# Altium footprint library SparkFun-Connectors.PCBLIB: 386 footprints (part 21 of 25)
Each footprint in its own frame and in the unit in brackets; x right, y up, seen from the top. Pads: shape width x height; smd on the part's side, far side on the other; paste and mask are expansions set on the pad; w line width, h text height; cw(c..) or ccw(c..) is an arc to the next point about the centre after c.
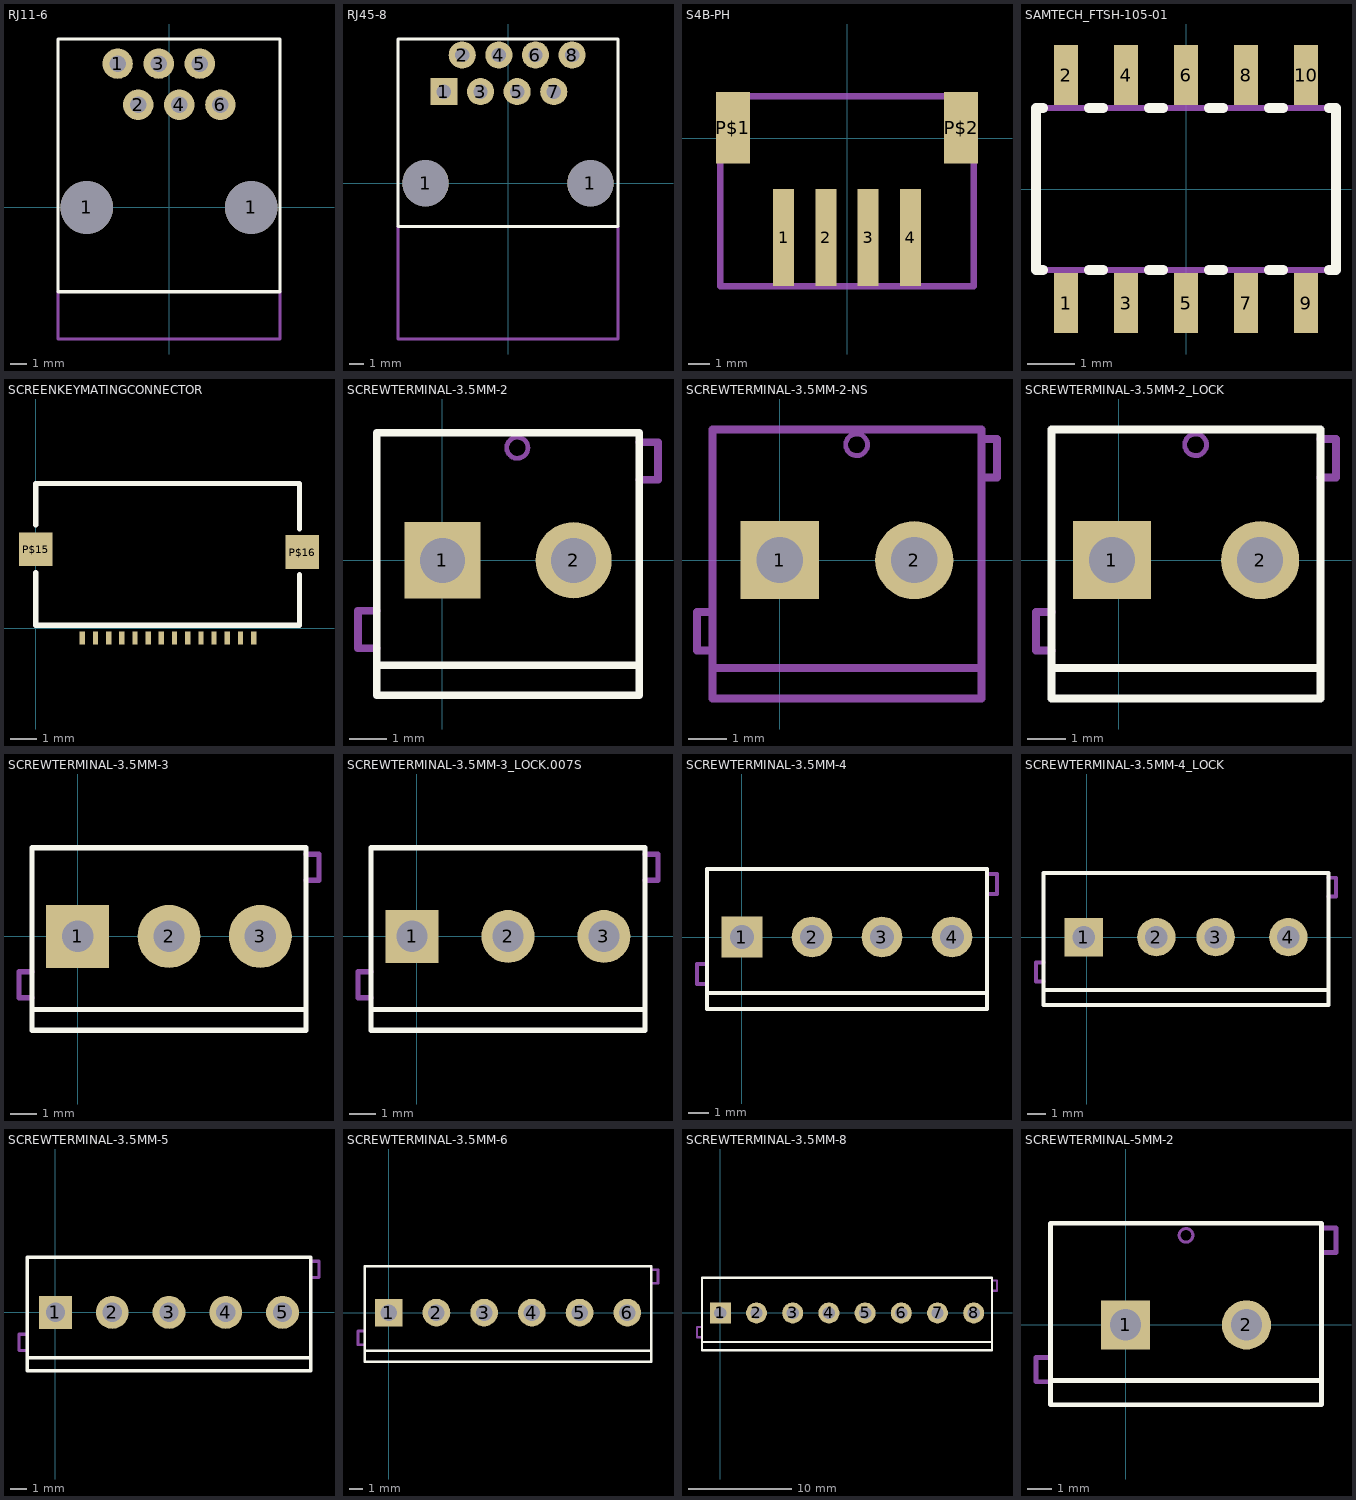
[diagram p20: the footprints below, top view; thin cyan lines are the x and y axes]

## RJ11-6 [mil]
pads (8):
  round 128 hole 128: 1(-200,0) 1(200,0)
  round 74 hole 40: 1(-125,350) 2(-75,250) 3(-25,350) 4(25,250) 5(75,350) 6(125,250)
Top Overlay:
  lines w8: -270,-205 -270,410 270,410 270,-205 -270,-205
Mechanical 16:
  lines w8: -270,-205 -270,-320 270,-320 270,-205

## RJ45-8 [mil]
pads (10):
  round 125.98 hole 125.98: 1(-225,0) 1(225,0)
  rect 74x74 hole 39.37: 1(-175,250)
  round 74 hole 39.37: 2(-125,350) 3(-75,250) 4(-25,350) 5(25,250) 6(75,350) 7(125,250) 8(175,350)
Top Overlay:
  lines w8: -300,-118.11 -300,393.7 300,393.7 300,-118.11 -300,-118.11
Mechanical 16:
  lines w8: -300,-118.11 -300,-425.2 300,-425.2 300,-118.11

## S4B-PH [mm]
pads (6):
  rect 1x4.6 smd: 1(-3,-4.7) 2(-1,-4.7) 3(1,-4.7) 4(3,-4.7)
  rect 1.6x3.4 smd: P$1(-5.4,0.5) P$2(5.4,0.5)
Mechanical 16:
  lines w0.305: -6,-7 -6,2 6,2 6,-7 -6,-7

## SAMTECH_FTSH-105-01 [mil]
pads (10):
  rect 20x50 smd: 1(-100,-95) 2(-100,95) 3(-50,-95) 4(-50,95) 5(0,-95) 6(0,95) 7(50,-95) 8(50,95) 9(100,-95) 10(100,95)
Top Overlay:
  lines w8: -119,-67.5 -125,-67.5 -125,67.5 -119,67.5 ; -81,-67.5 -69,-67.5 ; -81,67.5 -69,67.5 ; -31,-67.5 -19,-67.5 ; -31,67.5 -19,67.5 ; 19,-67.5 31,-67.5 ; 19,67.5 31,67.5 ; 69,-67.5 81,-67.5 ; 69,67.5 81,67.5 ; 119,-67.5 125,-67.5 125,67.5 119,67.5
Mechanical 16:
  rectangle: -8,67.5 8,115
  rectangle: 42,67.5 58,115
  rectangle: 92,67.5 108,115
  rectangle: -58,67.5 -42,115
  rectangle: -108,67.5 -92,115
  region: 8,-67.5 -8,-67.5 -8,-115 8,-115
  region: -42,-67.5 -58,-67.5 -58,-115 -42,-115
  region: -92,-67.5 -108,-67.5 -108,-115 -92,-115
  region: 58,-67.5 42,-67.5 42,-115 58,-115
  region: 108,-67.5 92,-67.5 92,-115 108,-115
  lines w5: -125,-67.5 125,-67.5 125,67.5 -125,67.5 -125,-67.5

## SCREENKEYMATINGCONNECTOR [mm]
pads (16):
  rect 0.2x0.5 smd: 1(1.76,-0.36) 2(2.26,-0.36) 3(2.76,-0.36) 4(3.26,-0.36) 5(3.76,-0.36) 6(4.26,-0.36) 7(4.76,-0.36) 8(5.26,-0.36) 9(5.76,-0.36) 10(6.26,-0.36) 11(6.76,-0.36) 12(7.26,-0.36) 13(7.76,-0.36) 14(8.26,-0.36)
  rect 1.28x1.28 smd: P$15(0,3) P$16(10.1,2.9)
Top Overlay:
  lines w0.203: 0,2.108 0,0.127 10,0.127 10,2.032 ; 0,3.937 0,5.486 ; 0,5.5 10,5.5 10,3.785

## SCREWTERMINAL-3.5MM-2 [mil]
pads (2):
  rect 80x80 hole 47.24: 1(0,0)
  round 80 hole 47.24: 2(137.8,0)
Top Overlay:
  lines w8: -68.9,-110.24 -68.9,-141.73 206.69,-141.73 206.69,-110.24 ; -68.9,-110.24 -68.9,133.86 206.69,133.86 206.69,-110.24 ; -68.9,-110.24 206.69,-110.24
Mechanical 16:
  circle w5: c78.74,118.11 r11.13
  lines w8: -68.9,-92.52 -88.58,-92.52 -88.58,-53.15 -68.9,-53.15 ; 206.69,84.65 226.38,84.65 226.38,124.02 206.69,124.02

## SCREWTERMINAL-3.5MM-2-NS [mil]
pads (2):
  rect 80x80 hole 47.24: 1(0,0)
  round 80 hole 47.24: 2(137.8,0)
Mechanical 16:
  circle w5: c78.74,118.11 r11.13
  lines w8: -68.9,-92.52 -84.65,-92.52 -84.65,-53.15 -68.9,-53.15 ; 206.69,84.65 222.44,84.65 222.44,124.02 206.69,124.02 ; -68.9,-110.24 -68.9,-141.73 206.69,-141.73 206.69,-110.24 ; -68.9,-110.24 -68.9,133.86 206.69,133.86 206.69,-110.24 ; -68.9,-110.24 206.69,-110.24

## SCREWTERMINAL-3.5MM-2_LOCK [mil]
pads (2):
  rect 80x80 hole 47.24: 1(-7,0)
  round 80 hole 47.24: 2(144.8,0)
Top Overlay:
  lines w8: -68.9,-110.24 -68.9,-141.73 206.69,-141.73 206.69,-110.24 ; -68.9,-110.24 -68.9,133.86 206.69,133.86 206.69,-110.24 ; -68.9,-110.24 206.69,-110.24
Mechanical 16:
  circle w5: c78.74,118.11 r11.13
  circle w1: c0,0 r17
  circle w1: c137.8,0 r17
  lines w8: -68.9,-92.52 -84.65,-92.52 -84.65,-53.15 -68.9,-53.15 ; 206.69,84.65 222.44,84.65 222.44,124.02 206.69,124.02

## SCREWTERMINAL-3.5MM-3 [mil]
pads (3):
  rect 95x95 hole 47.24: 1(0,0)
  round 95 hole 47.24: 2(137.8,0) 3(275.59,0)
Top Overlay:
  lines w8: -68.9,-110.24 -68.9,-141.73 344.49,-141.73 344.49,-110.24 ; -68.9,-110.24 -68.9,133.86 344.49,133.86 344.49,-110.24 ; -68.9,-110.24 344.49,-110.24
Mechanical 16:
  lines w8: -68.9,-92.52 -88.58,-92.52 -88.58,-53.15 -68.9,-53.15 ; 344.49,84.65 364.17,84.65 364.17,124.02 344.49,124.02

## SCREWTERMINAL-3.5MM-3_LOCK.007S [mil]
pads (3):
  rect 80x80 hole 47.24: 1(-7,0)
  round 80 hole 47.24: 2(137.8,0) 3(282.59,0)
Top Overlay:
  lines w8: -68.9,-110.24 -68.9,-141.73 344.49,-141.73 344.49,-110.24 ; -68.9,-110.24 -68.9,133.86 344.49,133.86 344.49,-110.24 ; -68.9,-110.24 344.49,-110.24
Mechanical 16:
  circle w0.04: c0,0 r16.73
  circle w0.04: c137.8,0 r16.73
  circle w0.04: c275.59,0 r16.73
  lines w8: -68.9,-92.52 -88.58,-92.52 -88.58,-53.15 -68.9,-53.15 ; 344.49,84.65 364.17,84.65 364.17,124.02 344.49,124.02

## SCREWTERMINAL-3.5MM-4 [mil]
pads (4):
  rect 80x80 hole 47.24: 1(0,0)
  round 80 hole 47.24: 2(137.8,0) 3(275.59,0) 4(413.39,0)
Top Overlay:
  lines w8: -68.9,-110.24 -68.9,-141.73 482.28,-141.73 482.28,-110.24 ; -68.9,-110.24 -68.9,133.86 482.28,133.86 482.28,-110.24 ; -68.9,-110.24 482.28,-110.24
Mechanical 16:
  circle w0.04: c0,0 r16.73
  circle w0.04: c137.8,0 r16.73
  circle w0.04: c275.59,0 r16.73
  circle w0.04: c413.39,0 r16.73
  lines w8: -68.9,-92.52 -88.58,-92.52 -88.58,-53.15 -68.9,-53.15 ; 482.28,84.65 501.97,84.65 501.97,124.02 482.28,124.02

## SCREWTERMINAL-3.5MM-4_LOCK [mil]
pads (4):
  rect 80x80 hole 47.24: 1(-7,0)
  round 80 hole 47.24: 2(144.8,0) 3(268.59,0) 4(420.39,0)
Top Overlay:
  lines w8: -90.55,-110.24 -90.55,-141.73 503.94,-141.73 503.94,-110.24 ; -90.55,-110.24 -90.55,133.86 503.94,133.86 503.94,-110.24 ; -90.55,-110.24 503.94,-110.24
Mechanical 16:
  circle w0.04: c0,0 r16.73
  circle w0.04: c137.8,0 r16.73
  circle w0.04: c275.59,0 r16.73
  circle w0.04: c413.39,0 r16.73
  lines w8: -90.55,-92.52 -106.3,-92.52 -106.3,-53.15 -90.55,-53.15 ; 503.94,84.65 519.69,84.65 519.69,124.02 503.94,124.02

## SCREWTERMINAL-3.5MM-5 [mil]
pads (5):
  rect 80x80 hole 47.24: 1(0,0)
  round 80 hole 47.24: 2(137.8,0) 3(275.59,0) 4(413.39,0) 5(551.18,0)
Top Overlay:
  lines w8: -68.9,-110.24 -68.9,-141.73 620.08,-141.73 620.08,-110.24 ; -68.9,-110.24 -68.9,133.86 620.08,133.86 620.08,-110.24 ; -68.9,-110.24 620.08,-110.24
Mechanical 16:
  lines w8: -68.9,-92.52 -88.58,-92.52 -88.58,-53.15 -68.9,-53.15 ; 620.08,84.65 639.76,84.65 639.76,124.02 620.08,124.02

## SCREWTERMINAL-3.5MM-6 [mil]
pads (6):
  rect 80x80 hole 47.24: 1(0,0)
  round 80 hole 47.24: 2(137.8,0) 3(275.59,0) 4(413.39,0) 5(551.18,0) 6(688.98,0)
Top Overlay:
  lines w8: -68.9,-110.24 -68.9,-141.73 757.87,-141.73 757.87,-110.24 ; -68.9,-110.24 -68.9,133.86 757.87,133.86 757.87,-110.24 ; -68.9,-110.24 757.87,-110.24
Mechanical 16:
  lines w8: -68.9,-92.52 -88.58,-92.52 -88.58,-53.15 -68.9,-53.15 ; 757.87,84.65 777.56,84.65 777.56,124.02 757.87,124.02

## SCREWTERMINAL-3.5MM-8 [mil]
pads (8):
  rect 80x80 hole 47.24: 1(0,0)
  round 80 hole 47.24: 2(137.8,0) 3(275.59,0) 4(413.39,0) 5(551.18,0) 6(688.98,0) 7(826.77,0) 8(964.57,0)
Top Overlay:
  lines w8: -68.9,-110.24 -68.9,-141.73 1033.46,-141.73 1033.46,-110.24 ; -68.9,-110.24 -68.9,133.86 1033.46,133.86 1033.46,-110.24 ; -68.9,-110.24 1033.46,-110.24
Mechanical 16:
  lines w8: -68.9,-92.52 -88.58,-92.52 -88.58,-53.15 -68.9,-53.15 ; 1033.46,84.65 1053.15,84.65 1053.15,124.02 1033.46,124.02

## SCREWTERMINAL-5MM-2 [mil]
pads (2):
  rect 80x80 hole 51.18: 1(0,0)
  round 80 hole 51.18: 2(196.85,0)
Top Overlay:
  lines w8: -122.05,-90.55 -122.05,-129.92 318.9,-129.92 318.9,-90.55 ; -122.05,-90.55 -122.05,165.35 318.9,165.35 318.9,-90.55 ; -122.05,-90.55 318.9,-90.55
Mechanical 16:
  circle w5: c98.43,145.67 r11.13
  lines w8: -122.05,-92.52 -145.67,-92.52 -145.67,-53.15 -122.05,-53.15 ; 318.9,118.11 342.52,118.11 342.52,157.48 318.9,157.48